# Altium footprint library UFL Antenna.PcbLib: 1 footprints
Each footprint in its own frame and in the unit in brackets; x right, y up, seen from the top. Pads: shape width x height; smd on the part's side, far side on the other; paste and mask are expansions set on the pad; w line width, h text height; cw(c..) or ccw(c..) is an arc to the next point about the centre after c.
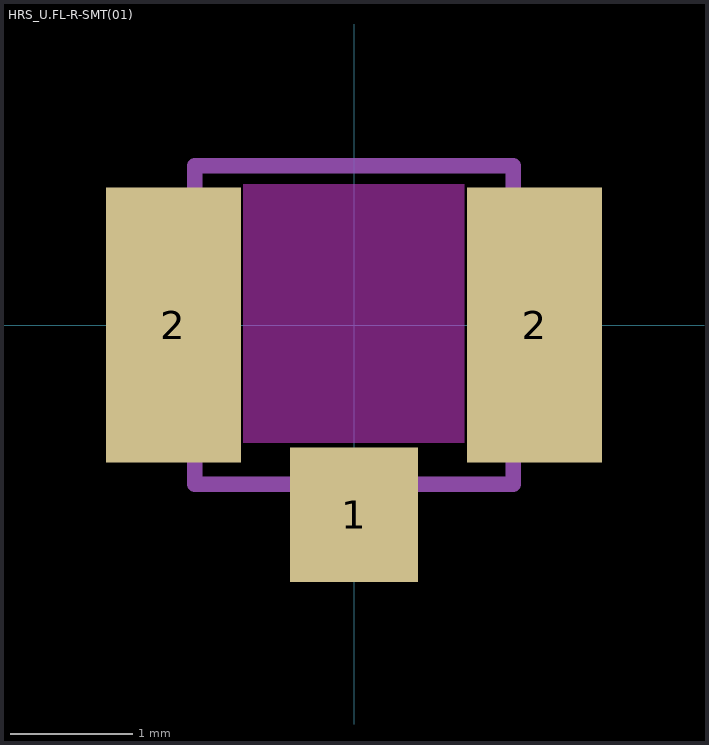
[diagram p0: the footprint, top view; thin cyan lines are the x and y axes]

## HRS_U.FL-R-SMT(01) [mm]
pads (3):
  rect 1.05x1.1 smd: 1(0,-1.55)
  rect 1.1x2.25 smd: 2(-1.475,0) 2(1.475,0)
Keep-Out Layer:
  region: 0.9,-0.963 -0.903,-0.963 -0.903,1.15 0.9,1.15
Mechanical 13:
  lines w0.127: -1.33,0.88 -1.33,0.87 -1.57,0.87 -1.57,-0.87 -1.3,-0.87 ; 1.34,-0.87 1.57,-0.87 1.57,0.87 1.38,0.87 ; -1.3,-0.87 -1.3,1.3 1.3,1.3 1.3,-1.3 -1.3,-1.3 -1.3,-0.87
Mechanical 14:
  lines w0.127: 1.34,-0.91 1.34,-0.9
3D body "U.FL-R-SMT-01---3DModel-STEP-269445 v1.step": height 1.25, standoff 0, extent -1.5,-1.55 1.5,1.55